# Altium integrated library TPS7A2045PDBVR.IntLib: 1 symbol
Pins are listed as number, name and electrical type; pins without a type are passive.

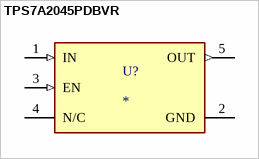
[diagram p0: symbol TPS7A2045PDBVR]

## TPS7A2045PDBVR
designator U?
MF: {'manufacturer': u'Texas Instruments'}; MP: TPS7A2045PDBVR; Package: None; Price: None; Value: *; Availability: Unavailable
footprint SOT95P280X145-5N
pins: 1 IN (in), 2 GND (power), 3 EN (in), 4 N/C, 5 OUT (out)